# Altium schematic symbol library 2EDF7275K.SchLib: 1 symbol
Pins are listed as number, name and electrical type; pins without a type are passive.

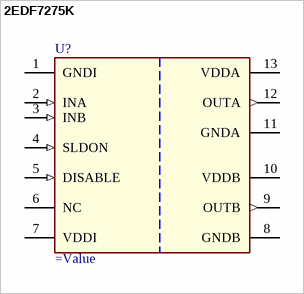
[diagram p0: symbol 2EDF7275K]

## 2EDF7275K
designator U?
Dual-Channel, Functional and Reinforced Isolated MOSFET Gate-Driver; Alternate View: No; Symbol Type: Dual-Channel, Functional and Reinforced Isolated MOSFET Gate-Driver; Multiple Parts: No
pins: 1 GNDI (power) "Ground input side (all signals on input side are referenced to this pin)", 2 INA (in) "Digital CMOS / TTL logic signal input for channel A with internal pull-down resistor to GNDI", 3 INB (in) "Digital CMOS / TTL logic signal input for channel B with internal pull-down resistor to GNDI", 4 SLDON (in) "Default 3.3 V supply selected, if N.C. or connected to VDDI", 5 DISABLE (in) "Digital CMOS / TTL logic input for both channels A and B; logic input high disables both output channels", 6 NC "Not connected; keep pin floating", 7 VDDI (power) "Supply voltage (input side) 3.3 V (Internal SLDO available)", 8 GNDB (power) "Ground for output channel B", 9 OUTB (out) "Output gate driver for channel B", 10 VDDB (power) "Supply voltage for output channel B", 11 GNDA (power) "Ground for output channel A", 12 OUTA (out) "Output gate driver for channel A", 13 VDDA (power) "Supply voltage for output channel A"